# Altium footprint library Capacitor.PcbLib: 12 footprints
Each footprint in its own frame and in the unit in brackets; x right, y up, seen from the top. Pads: shape width x height; smd on the part's side, far side on the other; paste and mask are expansions set on the pad; w line width, h text height; cw(c..) or ccw(c..) is an arc to the next point about the centre after c.
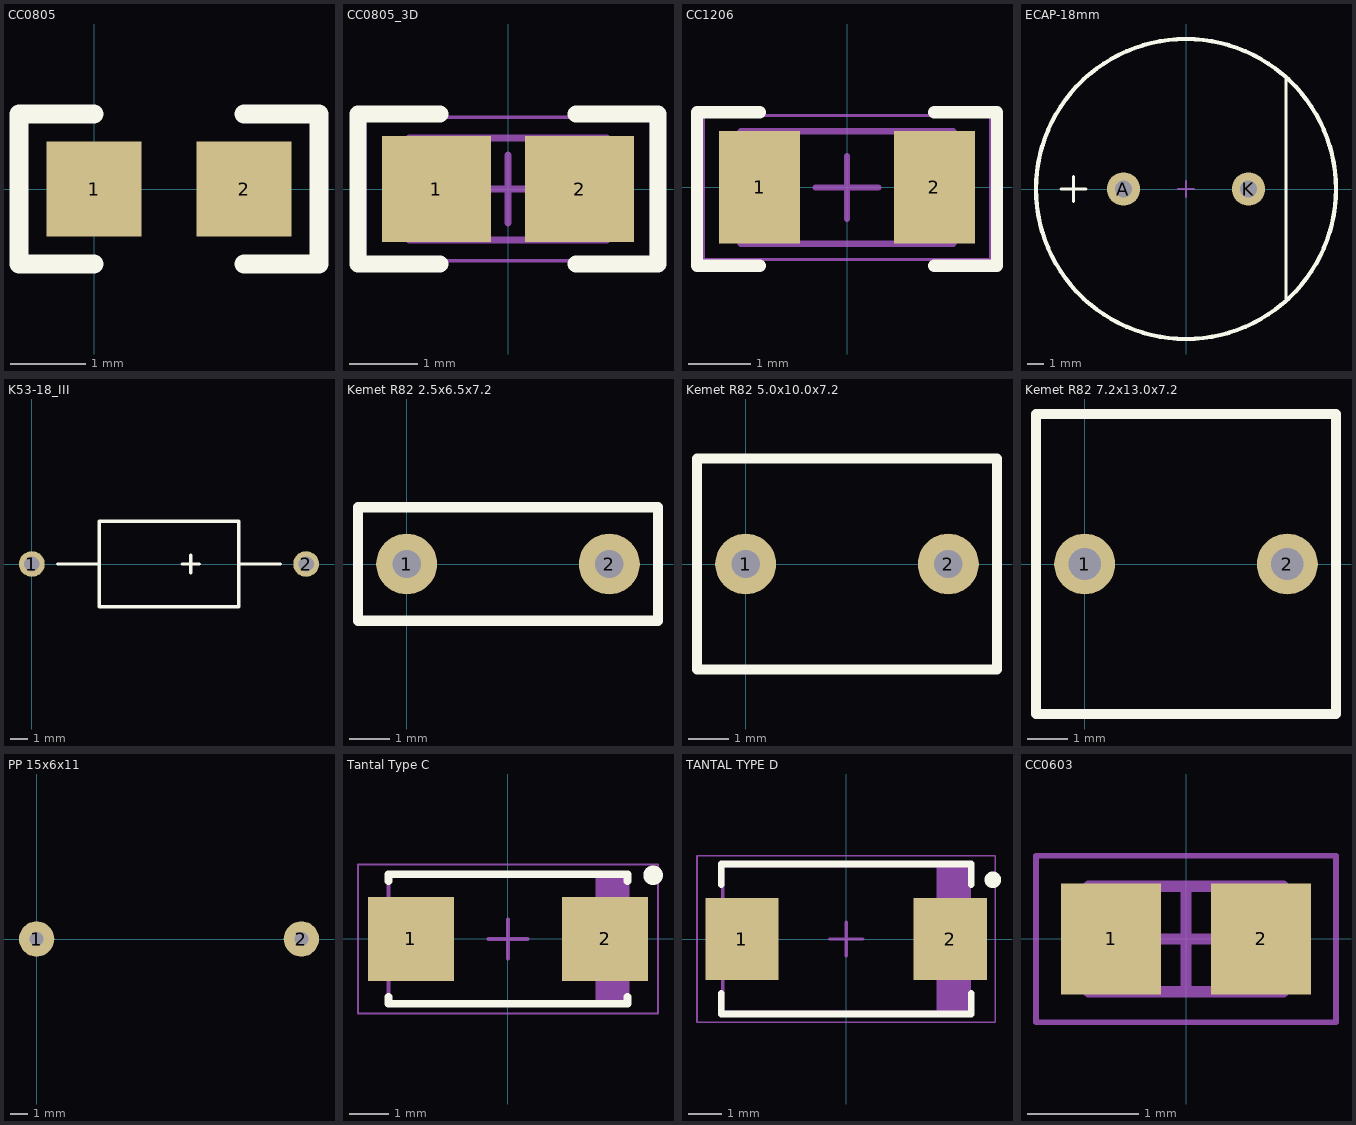
[diagram p0: the footprints below, top view; thin cyan lines are the x and y axes]

## CC0805 [mm]
pads (2):
  rect 1.27x1.27 smd: 1(0,0) 2(2,0)
Top Overlay:
  lines w0.254: 0,-1 -1,-1 -1,1 0,1 ; 2,-1 3,-1 3,1 2,1

## CC0805_3D [mm] "Chip Capacitor, 2-Leads, Body 2,80x1,40mm, IPC Medium Density"
height 0.7
pads (2):
  rect 1.6x1.55 smd: 1(-1.05,0) 2(1.05,0)
Top Overlay:
  lines w0.254: -1,-1.1 -2.2,-1.1 -2.2,1.1 -1,1.1 ; 1,-1.1 2.2,-1.1 2.2,1.1 1,1.1
Mechanical 13:
  lines w0.1: -1.45,-0.75 1.45,-0.75 1.45,0.75 -1.45,0.75 -1.45,-0.75
Mechanical 15:
  lines w0.05: -2.1,-1.05 2.1,-1.05 2.1,1.05 -2.1,1.05 -2.1,-1.05
  lines w0.1: -0.5,0 0.5,0 ; 0,-0.5 0,0.5
3D body "User Library-SMD CAPACITOR 0805.step": height 0.6, standoff 0, extent -1,-0.625 1,0.625

## CC1206 [mm]
height 1.6
pads (2):
  rect 1.3x1.8 smd: 1(-1.4,0) 2(1.4,0)
Top Overlay:
  lines w0.2: -1.4,-1.25 -2.4,-1.25 -2.4,1.2 -1.4,1.2 ; 1.4,-1.25 2.4,-1.25 2.4,1.2 1.4,1.2
Mechanical 13:
  lines w0.1: -1.7,-0.9 1.7,-0.9 1.7,0.9 -1.7,0.9 -1.7,-0.9
Mechanical 15:
  lines w0.05: -2.3,-1.15 2.3,-1.15 2.3,1.15 -2.3,1.15 -2.3,-1.15
  lines w0.1: -0.5,0 0.5,0 ; 0,-0.5 0,0.5
3D body "User Library-SMD CAPACITOR 1206.step": height 0.77, standoff -0.01, extent -1.6,-0.8 1.6,0.8

## ECAP-18mm [mm] "Aluminum Electrolytic Capacitor, d=18mm, lead = 7.5mm"
pads (2):
  round 2 hole 1: A(-3.75,0) K(3.75,0)
Top Overlay:
  circle w0.254: c0,0 r9
  lines w0.2: -7.5,0 -6,0 ; -6.75,-0.75 -6.75,0.75 ; 6,-6.7 6,6.7
Mechanical 13:
  circle w0.1: c0,0 r9
Mechanical 15:
  circle w0.1: c0,0 r9
  lines w0.1: -0.5,0 0.5,0 ; 0,-0.5 0,0.5
3D body "User Library-Cap-EL(18x40-7_5)T.step": height 42, standoff -2, extent -9,-8.999 9.002,9

## K53-18_III [mm]
pads (2):
  round 1.5 hole 0.9: 1(0,0) 2(16,0)
Top Overlay:
  lines w0.2: 1.5,0 3.925,0 ; 8.762,0 9.778,0 ; 9.27,-0.508 9.27,0.508 ; 12.075,0 14.5,0 ; 3.925,0 3.925,2.5 12.075,2.5 12.075,-2.5 3.925,-2.5 3.925,0
3D body "User Library-Capacitor_Axial_Tantalum.step": height 5.86, standoff -2.39, extent -2.331,-2.61 18.5,2.5

## Kemet R82 2.5x6.5x7.2 [mm] "Kemet R82 2.5x6.5x7.2"
height 7
pads (2):
  round 1.5 hole 0.7: 1(0,0) 2(5,0)
Top Overlay:
  lines w0.254: -1.2,-1.4 -1.2,1.4 6.2,1.4 6.2,-1.1 6.2,-1.4 -1.2,-1.4
3D body "Kemet 2.5x6.5x7.2.step": height 9.35, standoff -2.25, extent -1.2,-1.303 6.2,1.3

## Kemet R82 5.0x10.0x7.2 [mm] "Kemet R82 5.0x10.0x7.2"
height 10
pads (2):
  round 1.5 hole 0.7: 1(0,0) 2(5,0)
Top Overlay:
  lines w0.254: -1.2,-2.6 -1.2,2.6 6.2,2.6 6.2,-1.1 6.2,-2.6 -1.2,-2.6
3D body "Kemet 5.0x10.0x7.2.step": height 12.8, standoff -2.3, extent -1.25,-2.571 6.25,2.53

## Kemet R82 7.2x13.0x7.2 [mm] "Kemet R82 7.2x13.0x7.2"
height 13
pads (2):
  round 1.5 hole 0.8: 1(0,0) 2(5,0)
Top Overlay:
  lines w0.254: -1.2,-3.7 6.2,-3.7 6.2,-1.1 6.2,3.7 -1.2,3.7 -1.2,-3.7
3D body "Kemet 7.2x13.0x7.2.step": height 15.8, standoff -2.3, extent -1.25,-3.701 6.25,3.6

## PP 15x6x11 [mm]
pads (2):
  round 2 hole 0.8: 1(0,0) 2(15,0)
3D body "конденсатор полипропилен  17_5 x 5mm x 11mm.STEP": height 11.5, standoff -3, extent -1.2,-2.5 16.3,2.5

## Tantal Type C [mm] "Molded Capacitor, 2-Leads, Body 6,00x3,20mm, IPC Medium Density"
height 2.5
pads (2):
  rect 2.2x2.15 smd: 1(-2.475,0) 2(2.475,0)
Top Overlay:
  circle w0.25: c3.7,1.625 r0.125
  lines w0.2: -3.05,-1.475 -3.05,-1.65 3.05,-1.65 3.05,-1.475 ; -3.05,1.475 -3.05,1.65 3.05,1.65 3.05,1.475
Mechanical 13:
  rectangle: 2.23,-1.65 3.05,1.65
  lines w0.1: -3.05,-1.65 -3.05,1.65 3.05,1.65 3.05,-1.65 -3.05,-1.65
Mechanical 15:
  lines w0.05: -3.825,-1.9 -3.825,1.9 3.825,1.9 3.825,-1.9 -3.825,-1.9
  lines w0.1: -0.5,0 0.5,0 ; 0,-0.5 0,0.5
3D body "User Library-C_case.STEP": height 2.7, standoff 0, extent -3.05,-1.675 3.05,1.675

## TANTAL TYPE D [mm]
height 2.8
pads (2):
  rect 2.2x2.45 smd: 1(-3.125,0) 2(3.125,0)
Top Overlay:
  circle w0.25: c4.4,1.775 r0.125
  lines w0.2: -3.75,-1.625 -3.75,-2.25 3.75,-2.25 3.75,-1.625 ; -3.75,1.625 -3.75,2.25 3.75,2.25 3.75,1.625
Mechanical 13:
  rectangle: 2.705,-2.2 3.7,2.2
  lines w0.1: -3.7,-2.2 -3.7,2.2 3.7,2.2 3.7,-2.2 -3.7,-2.2
Mechanical 15:
  lines w0.05: -4.475,-2.5 -4.475,2.5 4.475,2.5 4.475,-2.5 -4.475,-2.5
  lines w0.1: -0.5,0 0.5,0 ; 0,-0.5 0,0.5
3D body "User Library-CaseD_7343-31.step": height 2.8, standoff 0, extent -3.65,-2.123 3.65,2.177

## СС0603 [mm]
height 0.8
pads (2):
  rect 0.9x1 smd: 1(-0.675,0) 2(0.675,0)
Mechanical 13:
  lines w0.1: -0.875,-0.475 0.875,-0.475 0.875,0.475 -0.875,0.475 -0.875,-0.475
Mechanical 15:
  lines w0.05: -1.35,-0.75 1.35,-0.75 1.35,0.75 -1.35,0.75 -1.35,-0.75
  lines w0.1: -0.475,0 0.475,0 ; 0,-0.475 0,0.475
3D body "User Library-SMD CAPACITOR 0603.step": height 0.79, standoff -0.01, extent -0.8,-0.4 0.8,0.4